# EAGLE library part 634108185521 (library WR-MJ)
WR-MJ Cat 3 Modular Jacks – SMT Characteristics Shieldingless and Shielded with EMI-Spring option Optional LEDs in various sequences Vertical and Horizontal orientation Tape & Reel packaging for pick-and-place assembly Properties PoE++ Compatible up to 100W (IEEE 802.3bt) UL and cULus-Certified UL94-V0 reflow-compatible insulator material Ethernet Category 3 – Category 5 under conditions Applications Networks Internet of Things Smart Buildings <https://www.we-online.com/components/media/o60696v209%20Multi-WR-MJSM-634008149821.jpg> Details see: www.we-online.com/en/components/products/WR_MJ_MODULAR_JACKS_SMT <www.we-online.com/catalog/WR_MJ_MODULAR_JACKS_SMT/?utm_source=eagle_model&utm_medium=description_link&utm_campaign=eisos_eagle> Updated by Yingchun Shan 2020-01-03 2020(C) Würth Elektronik
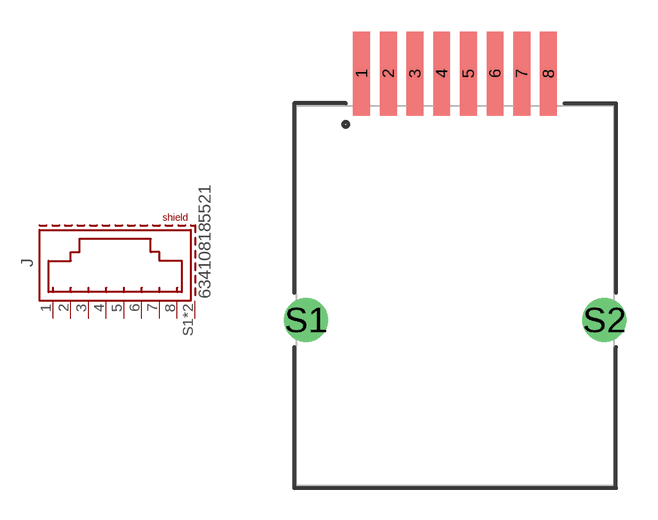
[diagram p43: symbol with the pads of 634108185521; footprint 634108185521]

Designator prefix J

## 634108185521 (APPLICATION-SYSTEM: CAT 3; DATASHEET-URL: https://www.we-online.com/redexpert/spec/634108185521?ae; EMI: No; LED: /; MOUNT: SMT; PART-NUMBER: 634108185521; SIZE: Horizontal; TAB: Down; VALUE: 634108185521; XPXC: 8P8C)  [634108185521]
1  8  pas
2  7  pas
3  6  pas
4  5  pas
5  4  pas
6  3  pas
7  2  pas
8  1  pas
S1  SHIELD  pas
S2  SHIELD  pas

## Footprint 634108185521 (pad centres in mm)
WR-MJ Modular Jack SMT Horizontal Plastic 8P8C Tab Down
smd 0.8 x 4: 1 -4.445,10.57; 2 -3.175,10.57; 3 -1.905,10.57; 4 -0.635,10.57; 5 0.635,10.57; 6 1.905,10.57; 7 3.175,10.57; 8 4.445,10.57
drill 1.4: S1 -7.095,-1.15; S2 7.095,-1.15